# Altium schematic symbol library Q13FC1350000400.SchLib: 1 symbol
Pins are listed as number, name and electrical type; pins without a type are passive.

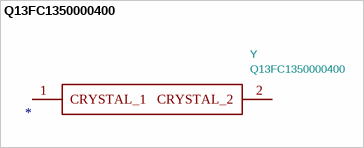
[diagram p0: symbol Q13FC1350000400]

## Q13FC1350000400
designator Y  value Q13FC1350000400
SMD Crystal Resonators 32.768KHz +/-20ppm SMD-3215_2P RoHS; Manufacturer_Name: SEIKO EPSON; Footprint: Q13FC1350000400; Supplier: https://datasheet.lcsc.com/szlcsc/1901081604_Seiko-Epson-Q13FC1350000400_C32346.pdf; Description_: SMD Crystal Resonators 32.768KHz +/-20ppm SMD-3215_2P RoHS; Height: 0.9; Manufacturer_Part_Number: Q13FC1350000400
footprint Q13FC1350000400
pins: 1 CRYSTAL_1, 2 CRYSTAL_2